# Altium footprint library PCB1.PcbLib: 10 footprints
Each footprint in its own frame and in the unit in brackets; x right, y up, seen from the top. Pads: shape width x height; smd on the part's side, far side on the other; paste and mask are expansions set on the pad; w line width, h text height; cw(c..) or ccw(c..) is an arc to the next point about the centre after c.
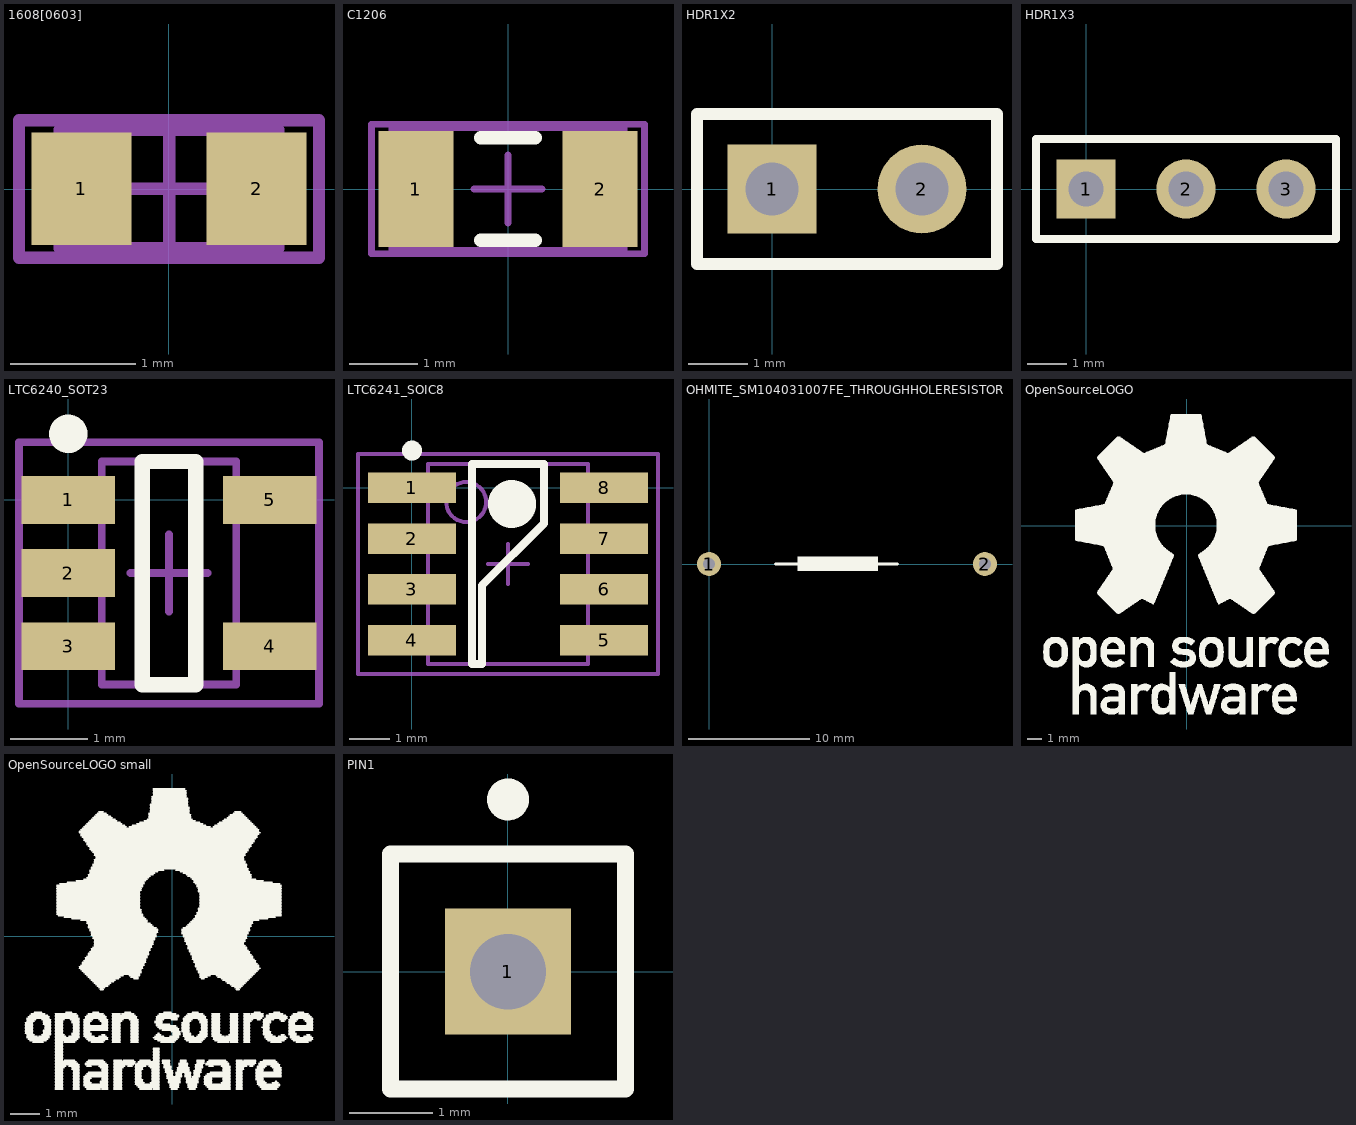
[diagram p0: the footprints below, top view; thin cyan lines are the x and y axes]

## 1608[0603] [mm] "Chip Capacitor, Body 1.6x0.8mm, IPC High Density"
height 1.3
pads (2):
  rect 0.8x0.9 smd: 1(-0.7,0) 2(0.7,0)
Mechanical 13:
  lines w0.1: -0.875,-0.475 -0.875,0.475 0.875,0.475 0.875,-0.475 -0.875,-0.475
Mechanical 15:
  lines w0.1: -0.475,0 0.475,0 ; 0,-0.475 0,0.475 ; -1.2,-0.55 -1.2,0.55 1.2,0.55 1.2,-0.55 -1.2,-0.55
3D body: height 1.3, standoff 0, extent -0.875,-0.475 0.875,0.475

## C1206 [mm] "Chip Capacitor, Body 3.2x1.6mm, IPC High Density"
height 1.3
pads (2):
  rect 1.1x1.7 smd: 1(-1.35,0) 2(1.35,0)
Top Overlay:
  lines w0.2: -0.4,-0.75 0.4,-0.75 ; -0.4,0.75 0.4,0.75
Mechanical 13:
  lines w0.1: -1.7,-0.9 1.7,-0.9 1.7,0.9 -1.7,0.9 -1.7,-0.9
Mechanical 15:
  lines w0.1: -0.5,0 0.5,0 ; 0,-0.5 0,0.5 ; -2,-0.95 2,-0.95 2,0.95 -2,0.95 -2,-0.95
3D body: height 1.3, standoff 0, extent -1.7,-0.9 1.7,0.9

## HDR1X2 [mm] "Connector; Header; 2 Position"
pads (2):
  rect 1.5x1.5 hole 0.9: 1(0,0)
  round 1.5 hole 0.9: 2(2.54,0)
Top Overlay:
  lines w0.2: -1.27,-1.27 3.81,-1.27 3.81,1.27 -1.27,1.27 -1.27,-1.27

## HDR1X3 [mm] "Connector; Header; 3 Position"
pads (3):
  rect 1.5x1.5 hole 0.9: 1(0,0)
  round 1.5 hole 0.9: 2(2.54,0) 3(5.08,0)
Top Overlay:
  lines w0.2: -1.27,-1.27 6.35,-1.27 6.35,1.27 -1.27,1.27 -1.27,-1.27

## LTC6240_SOT23 [mm] "SOT23, 5-Leads, Body 2,9x2,8mm (max), Pitch 0,95mm, IPC Medium Density"
height 1
pads (5):
  rect 1.22x0.62 smd: 1(0,0) 2(0,-0.95) 3(0,-1.9) 4(2.62,-1.9) 5(2.62,0)
Top Overlay:
  circle w0.25: c0,0.86 r0.125
  lines w0.2: 0.96,-2.4 0.96,0.5 1.66,0.5 1.66,-2.4 0.96,-2.4
Mechanical 13:
  lines w0.1: 0.435,-2.4 2.185,-2.4 2.185,0.5 0.435,0.5 0.435,-2.4
Mechanical 15:
  lines w0.1: 0.81,-0.95 1.81,-0.95 ; 1.31,-1.45 1.31,-0.45 ; -0.64,-2.65 3.26,-2.65 3.26,0.75 -0.64,0.75 -0.64,-2.65
3D body: height 1, standoff 0.1, extent 0.435,-2.4 2.185,0.5

## LTC6241_SOIC8 [mm] "SOIC, 8-Leads, Body 5,0x4,0mm (max), Pitch 1,27mm, IPC Medium Density"
height 1.752
pads (8):
  rect 2.2x0.762 smd: 1(0,0) 2(0,-1.27) 3(0,-2.54) 4(0,-3.81) 5(4.8,-3.81) 6(4.8,-2.54) 7(4.8,-1.27) 8(4.8,0)
Top Overlay:
  circle w0.6: c2.5,-0.405 r0.3
  circle w0.25: c0,0.931 r0.125
  lines w0.2: 1.499,-1.013 1.5,-1.015 1.5,-4.405 1.753,-4.405 1.753,-2.438 3.3,-0.891 3.3,0.595 2.348,0.595 1.499,0.595 1.499,-0.254 1.499,-0.33 1.499,-1.013
Mechanical 13:
  circle w0.1: c1.355,-0.355 r0.5
  lines w0.1: 0.405,-4.405 4.395,-4.405 4.395,0.595 0.405,0.595 0.405,-4.405
Mechanical 15:
  lines w0.1: 1.9,-1.905 2.9,-1.905 ; 2.4,-2.405 2.4,-1.405 ; -1.35,-4.655 6.15,-4.655 6.15,0.845 -1.35,0.845 -1.35,-4.655
3D body: height 1.75, standoff 0.25, extent 0.405,-4.405 4.395,0.595

## OHMITE_SM104031007FE_THROUGHHOLERESISTOR [mm]
height 8.64
pads (2):
  round 2 hole 1: 1(0,0) 2(22.86,0)
Top Overlay:
  rectangle: 7.341,-0.584 13.995,0.61
  lines w0.254: 5.512,0 15.596,0
3D body: height 8.8, standoff 1, extent -1.8,-1.27 24.8,1.27

## OpenSourceLOGO [mm]
Top Overlay:
  drawing of 3317 lines, arcs and shapes, not listed

## OpenSourceLOGO small [mm]
Top Overlay:
  drawing of 809 lines, arcs and shapes, not listed

## PIN1 [mm] "Connector; Plug"
pads (1):
  rect 1.5x1.5 hole 0.9: 1(0,0)
Top Overlay:
  circle w0.25: c0,2.05 r0.125
  lines w0.2: -1.4,-1.4 1.4,-1.4 1.4,1.4 -1.4,1.4 -1.4,-1.4